# EAGLE library part LT8490 (library linear)
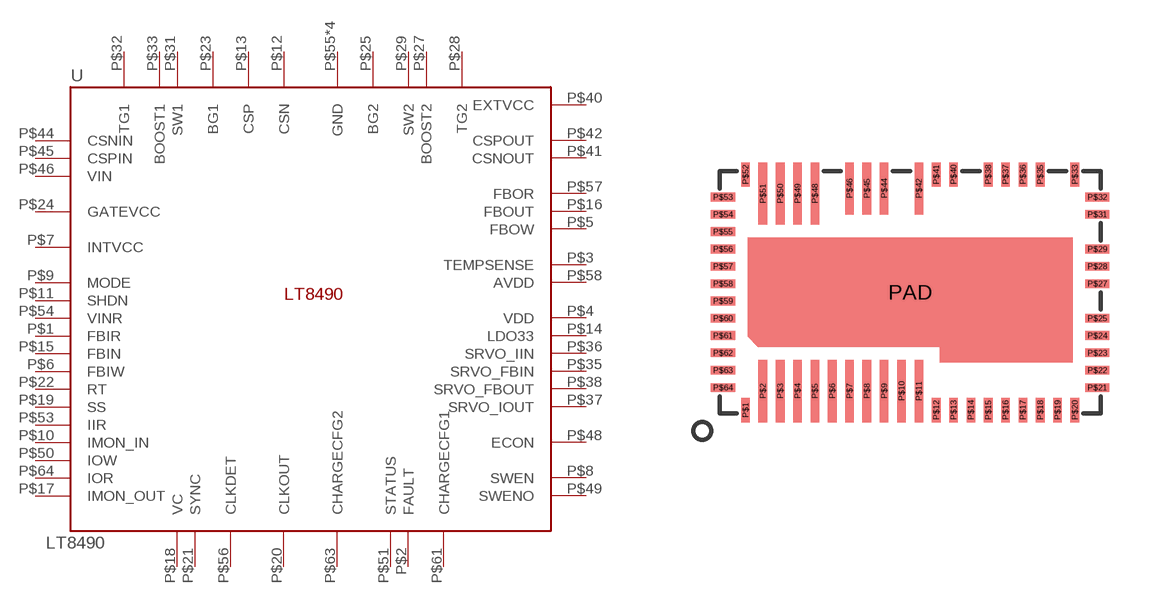
[diagram p282: symbol with the pads of UKJ64; footprint UKJ64]

Designator prefix -

## LT8490F  [UKJ64]
P$1  FBIR
P$2  FAULT
P$3  TEMPSENSE
P$4  VDD
P$5  FBOW
P$6  FBIW
P$7  INTVCC
P$8  SWEN
P$9  MODE
P$10  IMON_IN
P$11  SHDN
P$12  CSN
P$13  CSP
P$14  LDO33
P$15  FBIN
P$16  FBOUT
P$17  IMON_OUT
P$18  VC
P$19  SS
P$20  CLKOUT
P$21  SYNC
P$22  RT
P$23  BG1
P$24  GATEVCC
P$25  BG2
P$27  BOOST2
P$28  TG2
P$29  SW2
P$31  SW1
P$32  TG1
P$33  BOOST1
P$35  SRVO_FBIN
P$36  SRVO_IIN
P$37  SRVO_IOUT
P$38  SRVO_FBOUT
P$40  EXTVCC
P$41  CSNOUT
P$42  CSPOUT
P$44  CSNIN
P$45  CSPIN
P$46  VIN
P$48  ECON
P$49  SWENO
P$50  IOW
P$51  STATUS
P$53  IIR
P$54  VINR
P$55  GND
P$56  CLKDET
P$57  FBOR
P$58  AVDD
P$59  GND
P$61  CHARGECFG1
P$62  GND
P$63  CHARGECFG2
P$64  IOR
PAD  GND

## Footprint UKJ64 (pad centres in mm)
smd 0.25 x 0.7: P$1 -4.75,-3.4; P$12 0.75,-3.4; P$13 1.25,-3.4; P$14 1.75,-3.4; P$15 2.25,-3.4; P$16 2.75,-3.4; P$17 3.25,-3.4; P$18 3.75,-3.4; P$19 4.25,-3.4; P$20 4.75,-3.4; P$33 4.75,3.4; P$35 3.75,3.4; P$36 3.25,3.4; P$37 2.75,3.4; P$38 2.25,3.4; P$40 1.25,3.4; P$41 0.75,3.4; P$52 -4.75,3.4
smd 0.25 x 1.8: P$2 -4.25,-2.85; P$3 -3.75,-2.85; P$4 -3.25,-2.85; P$5 -2.75,-2.85; P$6 -2.25,-2.85; P$7 -1.75,-2.85; P$8 -1.25,-2.85; P$9 -0.75,-2.85; P$10 -0.25,-2.85; P$11 0.25,-2.85; P$48 -2.75,2.85; P$49 -3.25,2.85; P$50 -3.75,2.85; P$51 -4.25,2.85
smd 0.7 x 0.25: P$21 5.4,-2.75; P$22 5.4,-2.25; P$23 5.4,-1.75; P$24 5.4,-1.25; P$25 5.4,-0.75; P$27 5.4,0.25; P$28 5.4,0.75; P$29 5.4,1.25; P$31 5.4,2.25; P$32 5.4,2.75; P$53 -5.4,2.75; P$54 -5.4,2.25; P$55 -5.4,1.75; P$56 -5.4,1.25; P$57 -5.4,0.75; P$58 -5.4,0.25; P$59 -5.4,-0.25; P$60 -5.4,-0.75; P$61 -5.4,-1.25; P$62 -5.4,-1.75; P$63 -5.4,-2.25; P$64 -5.4,-2.75
smd 0.25 x 1.5: P$42 0.25,3; P$44 -0.75,3; P$45 -1.25,3; P$46 -1.75,3
smd 1.27 x 0.635: PAD 0,0